# Altium footprint library QFN-8_3x3x065P.PcbLib: 1 footprints
Each footprint in its own frame and in the unit in brackets; x right, y up, seen from the top. Pads: shape width x height; smd on the part's side, far side on the other; paste and mask are expansions set on the pad; w line width, h text height; cw(c..) or ccw(c..) is an arc to the next point about the centre after c.
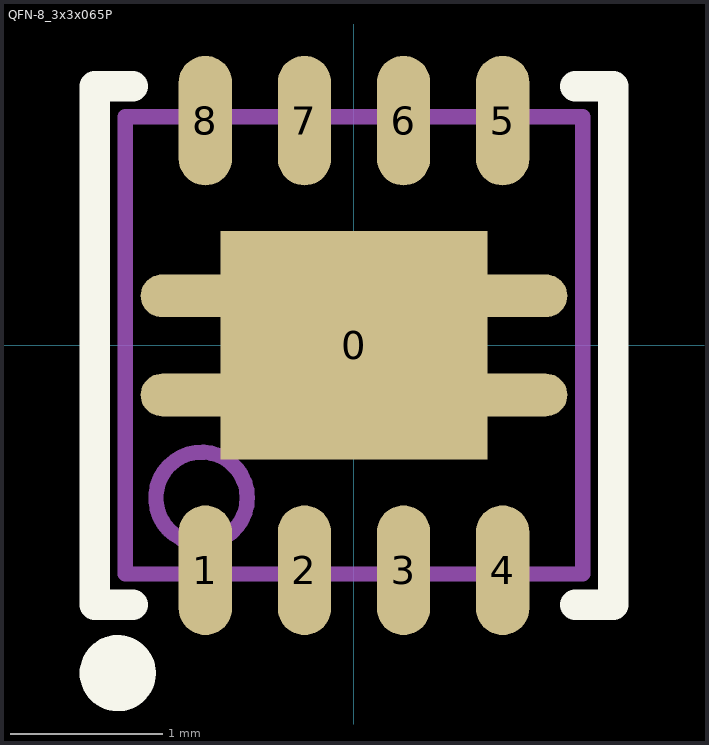
[diagram p0: the footprint, top view; thin cyan lines are the x and y axes]

## QFN-8_3x3x065P [mm]
pads (11):
  rect 1.75x1.5 smd: 0(0,0)
  oval 0.35x0.85 smd: 1(-0.975,-1.475) 2(-0.325,-1.475) 3(0.325,-1.475) 4(0.975,-1.475) 5(0.975,1.475) 6(0.325,1.475) 7(-0.325,1.475) 8(-0.975,1.475)
  oval 2.8x0.28 smd: ""(0,-0.325) ""(0,0.325)
Top Overlay:
  circle w0.25: c-1.55,-2.15 r0.125
  lines w0.2: -1.45,-1.7 -1.7,-1.7 -1.7,1.7 -1.45,1.7 ; 1.45,-1.7 1.7,-1.7 1.7,1.7 1.45,1.7
Mechanical 13:
  circle w0.1: c-1,-1 r0.3
  lines w0.1: -1.5,-1.5 -1.5,1.5 1.5,1.5 1.5,-1.5 -1.5,-1.5